# EAGLE library part MA08-1 (library MyComponents)
Headers & Wire Housing, 1 Row, 8 Position
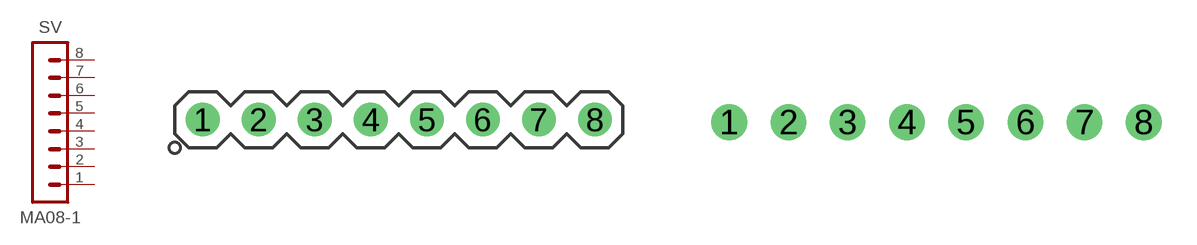
[diagram p2: symbol with the pads of MA08-1; footprints MA08-1, MA08-1-NO-PL]

Designator prefix SV

## MA08-1PL  [MA08-1]
1  1  pas
2  2  pas
3  3  pas
4  4  pas
5  5  pas
6  6  pas
7  7  pas
8  8  pas

## MA08-1NO-PL  [MA08-1-NO-PL]
Pads as for MA08-1

## Footprint MA08-1 (pad centres in mm)
PIN HEADER
drill 1.016: 1 -8.89,0; 2 -6.35,0; 3 -3.81,0; 4 -1.27,0; 5 1.27,0; 6 3.81,0; 7 6.35,0; 8 8.89,0

## Footprint MA08-1-NO-PL (pad centres in mm)
PIN HEADER
drill 1.016: 1 -8.89,0; 2 -6.35,0; 3 -3.81,0; 4 -1.27,0; 5 1.27,0; 6 3.81,0; 7 6.35,0; 8 8.89,0